# Altium schematic symbol library SCH - AMP AUDIO - ANALOG SSM2537ACBZ-R7.SchLib: 1 symbol
Pins are listed as number, name and electrical type; pins without a type are passive.

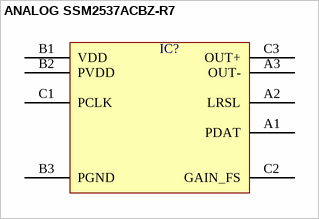
[diagram p0: symbol ANALOG SSM2537ACBZ-R7]

## ANALOG SSM2537ACBZ-R7
designator IC?  (value not drawn)
pins: A1 PDAT, A2 LRSL, A3 OUT-, B1 VDD, B2 PVDD, B3 PGND, C1 PCLK, C2 GAIN_FS, C3 OUT+